# Altium footprint library PCB - CONNECTORS - MOLEX 43045-0221.PcbLib: 1 footprints
Each footprint in its own frame and in the unit in brackets; x right, y up, seen from the top. Pads: shape width x height; smd on the part's side, far side on the other; paste and mask are expansions set on the pad; w line width, h text height; cw(c..) or ccw(c..) is an arc to the next point about the centre after c.
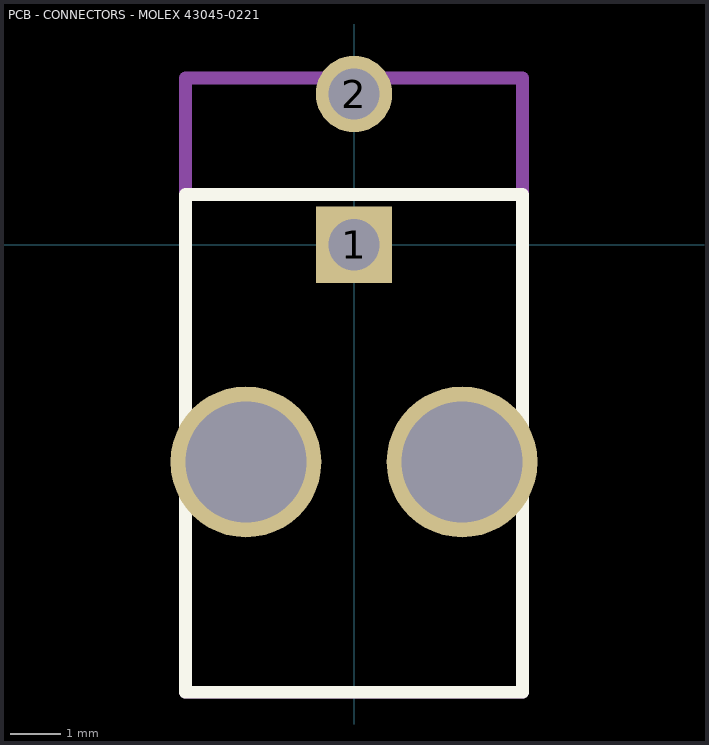
[diagram p0: the footprint, top view; thin cyan lines are the x and y axes]

## PCB - CONNECTORS - MOLEX 43045-0221 [mm]
height 10.06
pads (4):
  rect 1.52x1.52 hole 1.02: 1(0,0)
  round 1.52 hole 1.02: 2(0,3)
  round 3 hole 2.41 unplated: ""(-2.15,-4.32) ""(2.15,-4.32)
Top Overlay:
  lines w0.254: -3.35,-8.9 3.35,-8.9 3.35,1 -3.35,1 -3.35,-8.9
Mechanical 13:
  lines w0.254: -3.35,-8.9 -3.35,3.32 3.35,3.32 3.35,-8.9 -3.35,-8.9
3D body "430450221.stp": height 1.32, standoff -10.63, extent -3.644,-8.914 3.556,3.326